# Altium footprint library Outlines-Expansion-Addons.PcbLib: 4 footprints
Each footprint in its own frame and in the unit in brackets; x right, y up, seen from the top. Pads: shape width x height; smd on the part's side, far side on the other; paste and mask are expansions set on the pad; w line width, h text height; cw(c..) or ccw(c..) is an arc to the next point about the centre after c.
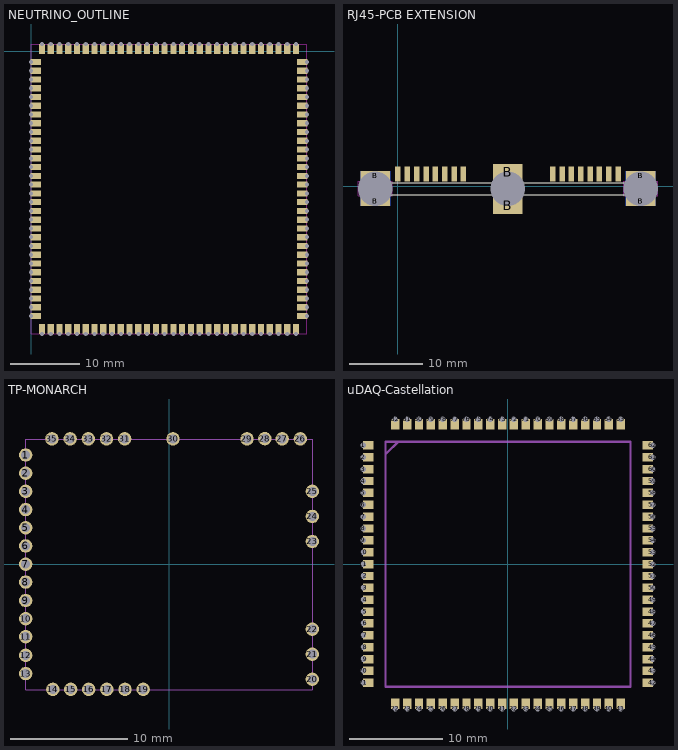
[diagram p0: the footprints below, top view; thin cyan lines are the x and y axes]

## NEUTRINO_OUTLINE [mm]
pads (120):
  rect 0.9x1.5 hole 0.6 copper offset 0,0.7 mask+0.14: 1(1.585,-41) 2(2.855,-41) 3(4.125,-41) 4(5.395,-41) 5(6.665,-41) 6(7.935,-41) 7(9.205,-41) 8(10.475,-41) 9(11.745,-41) 10(13.015,-41) 11(14.285,-41) 12(15.555,-41) 13(16.825,-41) 14(18.095,-41) 15(19.365,-41) 16(20.635,-41) 17(21.905,-41) 18(23.175,-41) 19(24.445,-41) 20(25.715,-41) 21(26.985,-41) 22(28.255,-41) 23(29.525,-41) 24(30.795,-41) 25(32.065,-41) 26(33.335,-41) 27(34.605,-41) 28(35.875,-41) 29(37.145,-41) 30(38.415,-41)
  rect 1.5x0.9 hole 0.6 copper offset -0.7,0 mask+0.14: 31(40,-38.415) 32(40,-37.145) 33(40,-35.875) 34(40,-34.605) 35(40,-33.335) 36(40,-32.065) 37(40,-30.795) 38(40,-29.525) 39(40,-28.255) 40(40,-26.985) 41(40,-25.715) 42(40,-24.445) 43(40,-23.175) 44(40,-21.905) 45(40,-20.635) 46(40,-19.365) 47(40,-18.095) 48(40,-16.825) 49(40,-15.555) 50(40,-14.285) 51(40,-13.015) 52(40,-11.745) 53(40,-10.475) 54(40,-9.205) 55(40,-7.935) 56(40,-6.665) 57(40,-5.395) 58(40,-4.125) 59(40,-2.855) 60(40,-1.585)
  rect 0.9x1.5 hole 0.6 copper offset 0,-0.7 mask+0.14: 61(38.415,1) 62(37.145,1) 63(35.875,1) 64(34.605,1) 65(33.335,1) 66(32.065,1) 67(30.795,1) 68(29.525,1) 69(28.255,1) 70(26.985,1) 71(25.715,1) 72(24.445,1) 73(23.175,1) 74(21.905,1) 75(20.635,1) 76(19.365,1) 77(18.095,1) 78(16.825,1) 79(15.555,1) 80(14.285,1) 81(13.015,1) 82(11.745,1) 83(10.475,1) 84(9.205,1) 85(7.935,1) 86(6.665,1) 87(5.395,1) 88(4.125,1) 89(2.855,1) 90(1.585,1)
  rect 1.5x0.9 hole 0.6 copper offset 0.7,0 mask+0.14: 91(0,-1.585) 92(0,-2.855) 93(0,-4.125) 94(0,-5.395) 95(0,-6.665) 96(0,-7.935) 97(0,-9.205) 98(0,-10.475) 99(0,-11.745) 100(0,-13.015) 101(0,-14.285) 102(0,-15.555) 103(0,-16.825) 104(0,-18.095) 105(0,-19.365) 106(0,-20.635) 107(0,-21.905) 108(0,-23.175) 109(0,-24.445) 110(0,-25.715) 111(0,-26.985) 112(0,-28.255) 113(0,-29.525) 114(0,-30.795) 115(0,-32.065) 116(0,-33.335) 117(0,-34.605) 118(0,-35.875) 119(0,-37.145) 120(0,-38.415)
Keep-Out Layer:
  lines w0.127: 0,-41 40,-41 40,1 0,1 0,-41

## RJ45-PCB EXTENSION [mm]
pads (29):
  rect 0.75x2 smd: 1(0,1.675) 2(1.27,1.675) 3(2.54,1.675) 4(3.81,1.675) 5(5.08,1.675) 6(6.35,1.675) 7(7.62,1.675) 8(8.89,1.675) 9(21.001,1.675) 10(22.271,1.675) 11(23.541,1.675) 12(24.811,1.675) 13(26.081,1.675) 14(27.351,1.675) 15(28.621,1.675) 16(29.891,1.675)
  rect 4x1.3 smd: B(-3.075,-2) B(-3.075,1.425) B(32.945,-2) B(32.945,1.425)
  rect 4x1.3 smd far side: B(-3.075,-2) B(-3.075,1.425) B(32.945,-2) B(32.945,1.425)
  rect 0x0 hole 4.7 square unplated: B(-3.072,-0.32) B(14.925,-0.325) B(32.948,-0.32)
  rect 4x2.3 smd: B(14.925,-2.6) B(14.925,1.895)
Top Overlay:
  lines w0.15: -5.15,-1.125 -5.15,0.5 35,0.5 35,-1.125 -5.15,-1.125
Keep-Out Layer:
  lines w0.1: -5.374,-1.273 -5.374,0.68 -0.755,0.68 -0.755,-1.273 -5.374,-1.273 ; 30.646,-1.273 35.265,-1.273 35.265,0.68 30.646,0.68 30.646,-1.273
3D body "TARJETA EXPANSION.stp": height 26.78, standoff -1.59, extent -4.964,-12.787 34.986,1.163

## TP-MONARCH [mil]
pads (35):
  round 45 hole 30: 1(-480.5,365.5) 2(-480.5,304.5) 3(-480.5,243.5) 4(-480.5,182.5) 5(-480.5,121.5) 6(-480.5,60.5) 7(-480.5,-0.5) 8(-480.5,-60.5) 9(-480.5,-122.5) 10(-480.5,-183.5) 11(-480.5,-243.5) 12(-480.5,-306.5) 13(-480.5,-367.5) 14(-389.5,-420.5) 15(-329.5,-420.5) 16(-269.5,-420.5) 17(-208.5,-420.5) 18(-147.5,-420.5) 19(-86.5,-420.5) 20(480.5,-386.5) 21(480.5,-302.5) 22(480.5,-218.5) 23(480.5,75.5) 24(480.5,159.5) 25(480.5,243.5) 26(440.5,419.5) 27(379.5,419.5) 28(321.5,420.5) 29(261.5,419.5) 30(13.5,419.5) 31(-148.5,419.5) 32(-209.5,419.5) 33(-270.5,419.5) 34(-331.5,419.5) 35(-392.5,419.5)
Mechanical 1:
  lines w1: -480.5,272.5 -480.5,336.5 ; -480.5,-421 481.2,-421 480.4,419 -480.5,419 -480.5,-421

## uDAQ-Castellation [mm]
pads (82):
  rect 1.1x0.9 hole 0.6 copper offset 0.55,0: 1(-15.5,12.69) 2(-15.5,11.42) 3(-15.5,10.15) 4(-15.5,8.88) 5(-15.5,7.61) 6(-15.5,6.34) 7(-15.5,5.07) 8(-15.5,3.8) 9(-15.5,2.53) 10(-15.5,1.26) 11(-15.5,-0.01) 12(-15.5,-1.28) 13(-15.5,-2.55) 14(-15.5,-3.82) 15(-15.5,-5.09) 16(-15.5,-6.36) 17(-15.5,-7.63) 18(-15.5,-8.9) 19(-15.5,-10.17) 20(-15.5,-11.44) 21(-15.5,-12.71)
  rect 0.9x1.1 hole 0.6 copper offset 0,0.55: 22(-12.065,-15.5) 23(-10.795,-15.5) 24(-9.525,-15.5) 25(-8.255,-15.5) 26(-6.985,-15.5) 27(-5.715,-15.5) 28(-4.445,-15.5) 29(-3.175,-15.5) 30(-1.905,-15.5) 31(-0.635,-15.5) 32(0.635,-15.5) 33(1.905,-15.5) 34(3.175,-15.5) 35(4.445,-15.5) 36(5.715,-15.5) 37(6.985,-15.5) 38(8.255,-15.5) 39(9.525,-15.5) 40(10.795,-15.5) 41(12.065,-15.5)
  rect 1.1x0.9 hole 0.6 copper offset -0.55,0: 42(15.5,-12.71) 43(15.5,-11.44) 44(15.5,-10.17) 45(15.5,-8.9) 46(15.5,-7.63) 47(15.5,-6.36) 48(15.5,-5.09) 49(15.5,-3.82) 50(15.5,-2.55) 51(15.5,-1.28) 52(15.5,-0.01) 53(15.5,1.26) 54(15.5,2.53) 55(15.5,3.8) 56(15.5,5.07) 57(15.5,6.34) 58(15.5,7.61) 59(15.5,8.88) 60(15.5,10.15) 61(15.5,11.42) 62(15.5,12.69)
  rect 0.9x1.1 hole 0.6 copper offset 0,-0.55: 63(12.065,15.5) 64(10.795,15.5) 65(9.525,15.5) 66(8.255,15.5) 67(6.985,15.5) 68(5.715,15.5) 69(4.445,15.5) 70(3.175,15.5) 71(1.905,15.5) 72(0.635,15.5) 73(-0.635,15.5) 74(-1.905,15.5) 75(-3.175,15.5) 76(-4.445,15.5) 77(-5.715,15.5) 78(-6.985,15.5) 79(-8.255,15.5) 80(-9.525,15.5) 81(-10.795,15.5) 82(-12.065,15.5)
Mechanical 1:
  lines w0.254: -13.01,11.845 -11.786,13.07 ; -13.105,-13.115 -13.105,13.095 13.105,13.095 13.105,-13.115 -13.105,-13.115